# EAGLE library part LM334 (library omcReferences)
LM334 - 3-Terminal Adjustable Current Sources Operates From 1V to 40V 0.02%/V Current Regulation Programmable From 1μA to 10mA True 2-Terminal Operation Datasheet Texas Instruments <http://www.ti.com/lit/ds/symlink/lm334.pdf> Reichelt <http://cdn-reichelt.de/documents/datenblatt/A200/DS_LM_334.pdf>
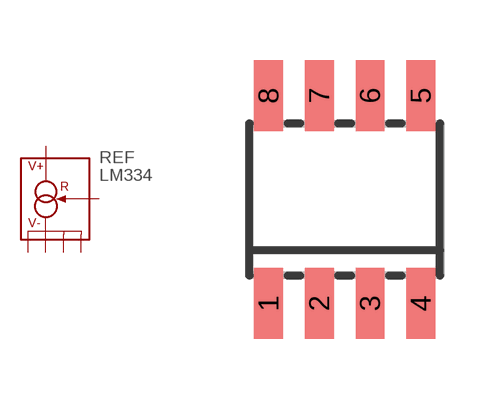
[diagram p0: symbol with the pads of SOIC08; footprint SOIC08]

Designator prefix REF

## LM334M (DIST#REICHELT#: LM 334 M; VALUE: LM334; VENDOR#: Texas Instruments, LM334M/NOPB)  [SOIC08]
1  R  pas
2  V-  pas
3  V-  pas
4  V+  pas
6  V-  pas
7  V-  pas

## Footprint SOIC08 (pad centres in mm)
SOIC08 SMD 5mm×6.2mm Wikipedia <https://en.wikipedia.org/wiki/Small_Outline_Integrated_Circuit>
smd 0.72 x 1.78: 1 -1.905,-2.6; 2 -0.635,-2.6; 3 0.635,-2.6; 4 1.905,-2.6; 5 1.905,2.6; 6 0.635,2.6; 7 -0.635,2.6; 8 -1.905,2.6